# EAGLE library part TSW-108-02-S-Q (library con-samtec)
THROUGH-HOLE .025" SQ POST HEADER Source: Samtec TSW.pdf
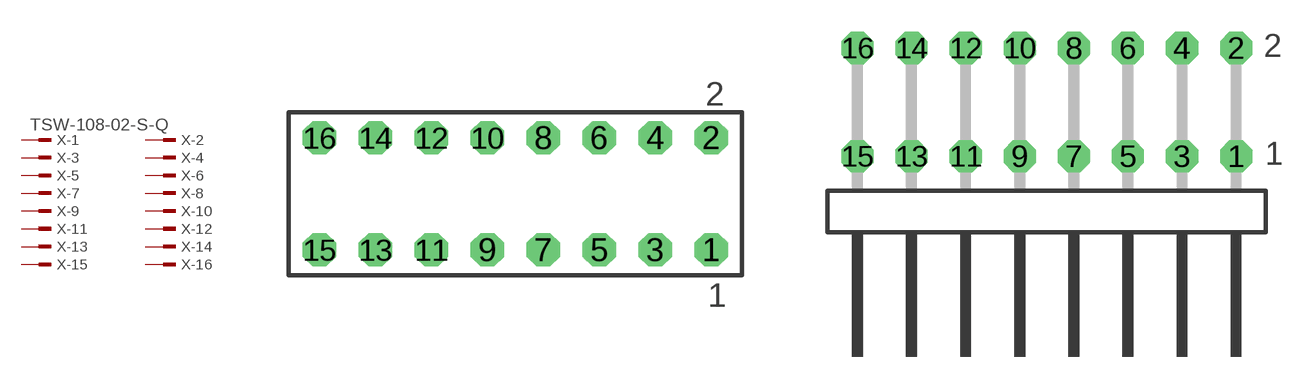
[diagram p282: symbol with the pads of TSW-108-02-S-Q; footprints TSW-108-02-S-Q, TSW-108-02-S-Q-RA]

Designator prefix X; gates -1=MPINV -2=MPIN -3=MPIN -4=MPIN -5=MPIN -6=MPIN -7=MPIN -8=MPIN -9=MPIN -10=MPIN -11=MPIN -12=MPIN -13=MPIN -14=MPIN -15=MPIN -16=MPIN

## TSW-108-02-S-Q (OC_FARNELL: unknown; OC_NEWARK: unknown)  [TSW-108-02-S-Q]
1  -1:1  pas
2  -2:1  pas
3  -3:1  pas
4  -4:1  pas
5  -5:1  pas
6  -6:1  pas
7  -7:1  pas
8  -8:1  pas
9  -9:1  pas
10  -10:1  pas
11  -11:1  pas
12  -12:1  pas
13  -13:1  pas
14  -14:1  pas
15  -15:1  pas
16  -16:1  pas

## TSW-108-02-S-Q-RA (OC_FARNELL: unknown; OC_NEWARK: unknown)  [TSW-108-02-S-Q-RA]
Pads as for TSW-108-02-S-Q

## Footprint TSW-108-02-S-Q (pad centres in mm)
THROUGH-HOLE .025" SQ POST HEADER Source: Samtec TSW.pdf
drill 1 pad 1.5 octagon: 1 8.89,-2.54; 2 8.89,2.54; 3 6.35,-2.54; 4 6.35,2.54; 5 3.81,-2.54; 6 3.81,2.54; 7 1.27,-2.54; 8 1.27,2.54; 9 -1.27,-2.54; 10 -1.27,2.54; 11 -3.81,-2.54; 12 -3.81,2.54; 13 -6.35,-2.54; 14 -6.35,2.54; 15 -8.89,-2.54; 16 -8.89,2.54

## Footprint TSW-108-02-S-Q-RA (pad centres in mm)
THROUGH-HOLE .025" SQ POST HEADER Source: Samtec TSW.pdf
drill 1 pad 1.5 octagon: 1 8.89,1.524; 2 8.89,6.604; 3 6.35,1.524; 4 6.35,6.604; 5 3.81,1.524; 6 3.81,6.604; 7 1.27,1.524; 8 1.27,6.604; 9 -1.27,1.524; 10 -1.27,6.604; 11 -3.81,1.524; 12 -3.81,6.604; 13 -6.35,1.524; 14 -6.35,6.604; 15 -8.89,1.524; 16 -8.89,6.604